# EAGLE library part CC110L (library RFID)
Ultra Low-Power Wireless Transceiver CC110L 315/433/868/915 MHz ISM/SRD bands
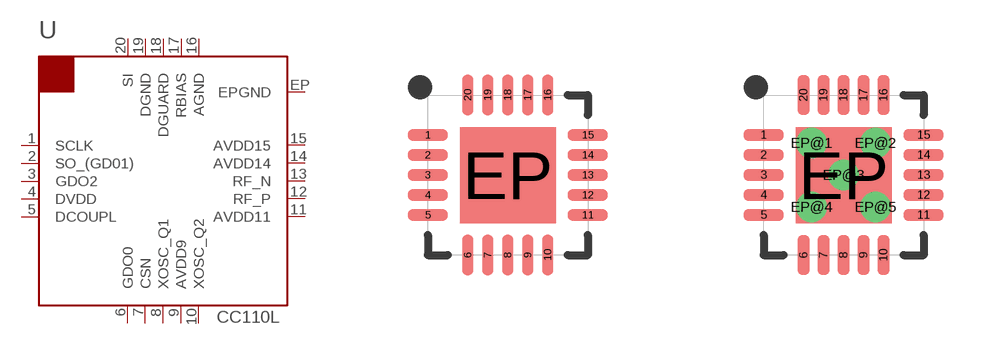
[diagram p2: symbol with the pads of VFQFN-20; footprints VFQFN-20, S-PVQFN-N20]

Designator prefix U

## CC110LRTKT (PARTNO: 01-100437-00)  [VFQFN-20]
1  SCLK  in
2  SO_(GD01)  out
3  GDO2  out
4  DVDD  pwr
5  DCOUPL  pas
6  GDO0
7  CSN  in
8  XOSC_Q1
9  AVDD9  pwr
10  XOSC_Q2
11  AVDD11  pwr
12  RF_P
13  RF_N
14  AVDD14  pwr
15  AVDD15  pwr
16  AGND  pwr
17  RBIAS
18  DGUARD  pwr
19  DGND  pwr
20  SI  in
EP  EPGND  pwr

## CC110LRGP  [S-PVQFN-N20]
1  SCLK  in
2  SO_(GD01)  out
3  GDO2  out
4  DVDD  pwr
5  DCOUPL  pas
6  GDO0
7  CSN  in
8  XOSC_Q1
9  AVDD9  pwr
10  XOSC_Q2
11  AVDD11  pwr
12  RF_P
13  RF_N
14  AVDD14  pwr
15  AVDD15  pwr
16  AGND  pwr
17  RBIAS
18  DGUARD  pwr
19  DGND  pwr
20  SI  in
EP  EPGND  pwr
EP@1  EPGND  pwr
EP@2  EPGND  pwr
EP@3  EPGND  pwr
EP@4  EPGND  pwr
EP@5  EPGND  pwr

## Footprint VFQFN-20 (pad centres in mm)
Quad Flatpack No-Lead. 4x4mm
smd 1 x 0.28: 1 -2,1; 2 -2,0.5; 3 -2,0; 4 -2,-0.5; 5 -2,-1; 11 2,-1; 12 2,-0.5; 13 2,0; 14 2,0.5; 15 2,1
smd 0.28 x 1: 6 -1,-2; 7 -0.5,-2; 8 0,-2; 9 0.5,-2; 10 1,-2; 16 1,2; 17 0.5,2; 18 0,2; 19 -0.5,2; 20 -1,2
smd 2.4 x 2.4: EP 0,0

## Footprint S-PVQFN-N20 (pad centres in mm)
smd 1 x 0.3: 1 -2,1; 2 -2,0.5; 3 -2,0; 4 -2,-0.5; 5 -2,-1; 11 2,-1; 12 2,-0.5; 13 2,0; 14 2,0.5; 15 2,1
smd 0.3 x 1: 6 -1,-2; 7 -0.5,-2; 8 0,-2; 9 0.5,-2; 10 1,-2; 16 1,2; 17 0.5,2; 18 0,2; 19 -0.5,2; 20 -1,2
smd 2.4 x 2.4: EP 0,0
drill 0.254 pad 0.61: EP@1 -0.8,0.8; EP@2 0.8,0.8; EP@3 0,0; EP@4 -0.8,-0.8; EP@5 0.8,-0.8